# Altium footprint library Technik Industrial Footprints.PcbLib: 2 footprints
Each footprint in its own frame and in the unit in brackets; x right, y up, seen from the top. Pads: shape width x height; smd on the part's side, far side on the other; paste and mask are expansions set on the pad; w line width, h text height; cw(c..) or ccw(c..) is an arc to the next point about the centre after c.
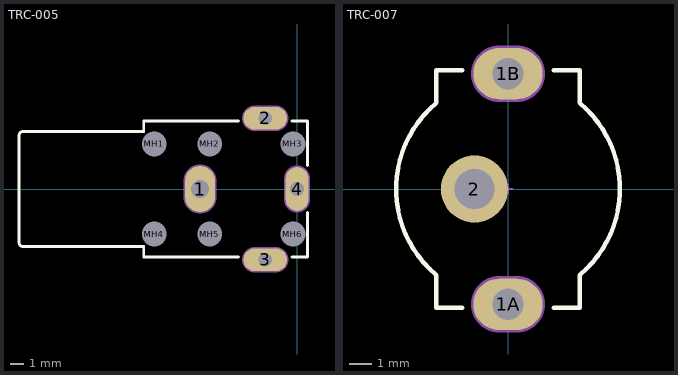
[diagram p0: the footprints below, top view; thin cyan lines are the x and y axes]

## TRC-005 [mm] "RCA Phono Jack, Right Angle, Thru-Hole, Body 20.8 x 9.8 x 11 mm (LxWxH)"
height 11
pads (10):
  oval 2.15x3.35 hole 1.3: 1(-7,0)
  oval 3.15x1.65 hole 1: 2(-2.3,5.1) 3(-2.3,-5.1)
  oval 1.65x3.15 hole 1: 4(0,0)
  round 1.5 hole 1.8 unplated: MH1(-10.3,3.25) MH2(-6.3,3.25) MH3(-0.3,3.25) MH4(-10.3,-3.25) MH5(-6.3,-3.25) MH6(-0.3,-3.25)
Top Overlay:
  lines w0.2: -4.235,-4.9 -11.05,-4.9 -11.05,-4.15 -19.75,-4.15 cw(c-19.75,-3.85) -20.05,-3.85 -20.05,3.85 cw(c-19.75,3.85) -19.75,4.15 -11.05,4.15 -11.05,4.9 -4.235,4.9 ; -0.365,-4.9 0.75,-4.9 0.75,-1.69 ; -0.365,4.9 0.75,4.9 0.75,1.69
Mechanical 1:
  lines w1: -3.104,5.1 -1.604,5.1 ; -3.05,-5.1 -1.55,-5.1 ; 0,-0.75 0,0.75
  lines w1.3: -7,-0.6 -7,0.6
  text "Mech 1 - Slot cut-out" at -11.026,6.743 h0.3
  text "Mech 2 - Clearance, move to internal plane if present" at -11.026,6.243 h0.3
  text "Alert PCB fab to slot details" at -11.026,7.143 h0.3
  text "Assign keep-out area to slot" at -11.026,7.643 h0.3
Mechanical 2:
  lines w1.866: -3.05,-5.1 -1.55,-5.1 ; -3.05,5.1 -1.55,5.1 ; 0,-0.75 0,0.75
  lines w2.366: -7,-0.6 -7,0.6

## TRC-007 [mm] "RCA Socket, Vertical, Thru-Hole, Body 10.6 x 10 x 15 mm (LxWxH)"
height 15
pads (3):
  oval 3.1x2.3 hole 1.4: 1A(0,-5.15) 1B(0,5.15)
  round 3 hole 1.8: 2(-1.5,0)
Top Overlay:
  lines w0.2: -3.221,-3.825 cw(c0,0) -3.221,3.825 ; -3.2,-3.845 -3.2,-5.3 -2.05,-5.3 ; -3.2,3.845 -3.2,5.3 -2.05,5.3 ; 2.05,-5.3 3.2,-5.3 3.2,-3.845 ; 2.05,5.3 3.2,5.3 3.2,3.845 ; 3.221,-3.825 ccw(c0,0) 3.221,3.825
Mechanical 1:
  lines w0.1: -0.2,0 0.2,0 ; 0,-0.2 0,0.2
  lines w1.4: -0.4,-5.15 0.4,-5.15 ; -0.4,5.15 0.4,5.15
  text "Assign keep-out area to slot" at -6.358,8.341 h0.3
  text "Alert PCB fab to slot details" at -6.358,7.841 h0.3
  text "Mech 2 - Clearance, move to internal plane if present" at -6.358,6.941 h0.3
  text "Mech 1 - Slot cut-out" at -6.358,7.441 h0.3
Mechanical 2:
  lines w2.516: -0.4,-5.15 0.4,-5.15 ; -0.4,5.15 0.4,5.15